# EAGLE library part 1X08 (library Jordi)
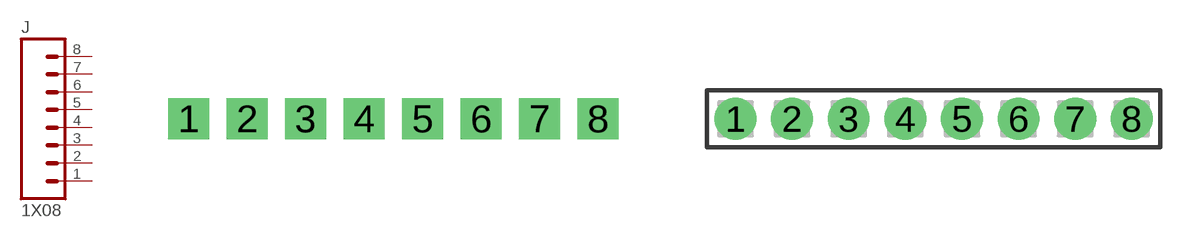
[diagram p35: symbol with the pads of CASTELLATION-08-0.1; footprints CASTELLATION-08-0.1, F-1X08-0.1-PTH]

Designator prefix J

## 1X08CAS-0.1  [CASTELLATION-08-0.1]
1  1  pas
2  2  pas
3  3  pas
4  4  pas
5  5  pas
6  6  pas
7  7  pas
8  8  pas

## 1X08F-0.1-PTH  [F-1X08-0.1-PTH]
Pads as for CASTELLATION-08-0.1

## 1X08M-0.1-PTH  [M-1X08-0.1-PTH]
Pads as for CASTELLATION-08-0.1

## Footprint CASTELLATION-08-0.1 (pad centres in mm)
drill 1.016 pad 1.778 square: 1 -8.89,0; 2 -6.35,0; 3 -3.81,0; 4 -1.27,0; 5 1.27,0; 6 3.81,0; 7 6.35,0; 8 8.89,0

## Footprint F-1X08-0.1-PTH (pad centres in mm)
drill 1.016 pad 1.88: 1 -8.89,0; 2 -6.35,0; 3 -3.81,0; 4 -1.27,0; 5 1.27,0; 6 3.81,0; 7 6.35,0; 8 8.89,0

## Footprint M-1X08-0.1-PTH (pad centres in mm)
drill 1.016 pad 1.88: 1 -8.89,0; 2 -6.35,0; 3 -3.81,0; 4 -1.27,0; 5 1.27,0; 6 3.81,0; 7 6.35,0; 8 8.89,0